# EAGLE library part EA-DOGM128 (library ea)
Electronic Assembly Grafik Display EA DOGM128-6 128x64 Dots www.lcd-module.de
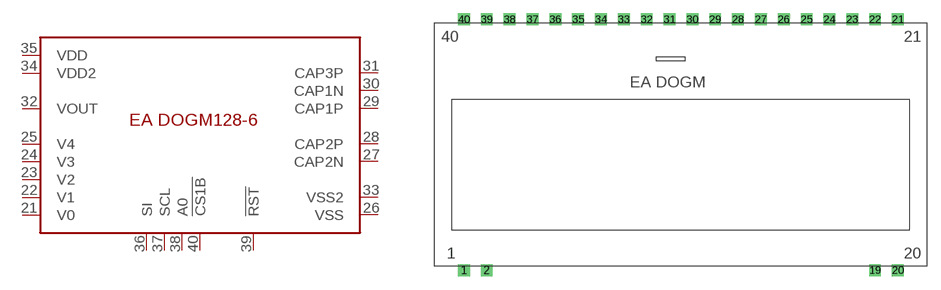
[diagram p1: symbol with the pads of EADOG-M; footprint EADOG-M]

Designator prefix -

## EA-DOGM128  [EADOG-M]
21  V0
22  V1
23  V2
24  V3
25  V4
26  VSS
27  CAP2N
28  CAP2P
29  CAP1P
30  CAP1N
31  CAP3P
32  VOUT
33  VSS2
34  VDD2
35  VDD
36  SI
37  SCL
38  A0
39  !RST
40  !CS1B

## Footprint EADOG-M (pad centres in mm)
drill 0.813 square: 1 0,0; 2 2.54,0; 19 45.72,0; 20 48.26,0; 21 48.26,27.94; 22 45.72,27.94; 23 43.18,27.94; 24 40.64,27.94; 25 38.1,27.94; 26 35.56,27.94; 27 33.02,27.94; 28 30.48,27.94; 29 27.94,27.94; 30 25.4,27.94; 31 22.86,27.94; 32 20.32,27.94; 33 17.78,27.94; 34 15.24,27.94; 35 12.7,27.94; 36 10.16,27.94; 37 7.62,27.94; 38 5.08,27.94; 39 2.54,27.94; 40 0,27.94